# EAGLE library part 2171750001 (library 2171750001)
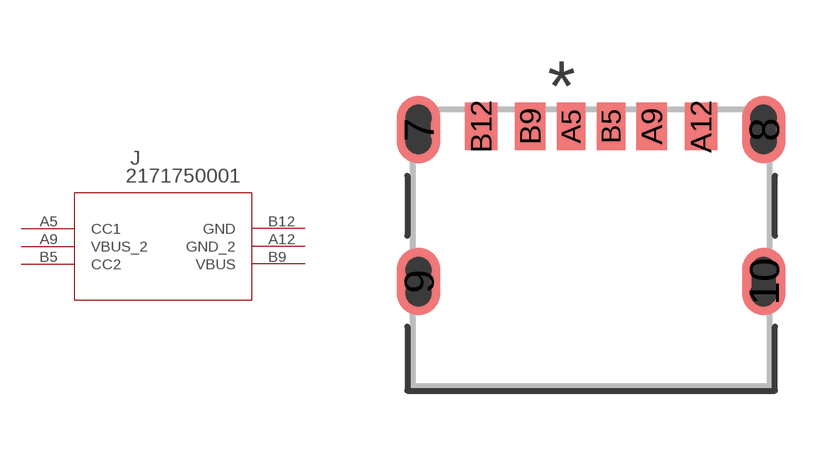
[diagram p0: symbol with the pads of 2171750001_MOL; footprint 2171750001_MOL]

Designator prefix J

## 2171750001 (MANUFACTURER_PART_NUMBER: 2171750001; MFR_NAME: Molex Connector Corporation)  [2171750001_MOL]
A5  CC1
A9  VBUS_2  pwr
A12  GND_2  pas
B5  CC2
B9  VBUS  pwr
B12  GND  pas

## Footprint 2171750001_MOL (pad centres in mm)
smd 1.092 x 1.702: 7 -4.32,2.954; 8 4.32,2.954; 9 -4.32,-0.846; 10 4.32,-0.846
smd 0.711 x 1.194: A5 -0.5,3.034; B5 0.5,3.034
smd 0.762 x 1.194: A9 1.52,3.034; B9 -1.52,3.034
smd 0.813 x 1.194: A12 2.75,3.034; B12 -2.75,3.034
hole 0.61 at -4.318,-1.143
hole 0.61 at 4.318,-0.559
hole 0.61 at 4.318,-1.143
hole 0.61 at -4.318,3.251
hole 0.61 at -4.318,2.667
hole 0.61 at 4.318,3.251
hole 0.61 at 4.318,2.667
hole 0.61 at -4.318,-0.559